# EAGLE library part ELSHIFTER (library ELSHIFTER)
TXB0108 LEVEL SHIFTER. Foot Print for adafruit breakout board.
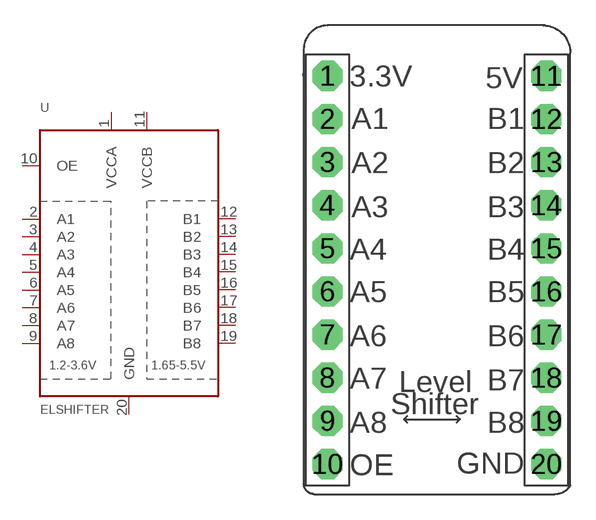
[diagram p0: symbol with the pads of ELSHIFTER; footprint ELSHIFTER]

Designator prefix U

## ELSHIFTER  [ELSHIFTER]
1  VCCA  pwr
2  A1
3  A2
4  A3
5  A4
6  A5
7  A6
8  A7
9  A8
10  OE
11  VCCB  pwr
12  B1
13  B2
14  B3
15  B4
16  B5
17  B6
18  B7
19  B8
20  GND  pwr

## Footprint ELSHIFTER (pad centres in mm)
drill 1.016 pad 1.778 octagon: 1 0,11.43; 2 0,8.89; 3 0,6.35; 4 0,3.81; 5 0,1.27; 6 0,-1.27; 7 0,-3.81; 8 0,-6.35; 9 0,-8.89; 10 0,-11.43; 11 12.89,11.43; 12 12.89,8.89; 13 12.89,6.35; 14 12.89,3.81; 15 12.89,1.27; 16 12.89,-1.27; 17 12.89,-3.81; 18 12.89,-6.35; 19 12.89,-8.89; 20 12.89,-11.43